# Altium footprint library Connectors.PcbLib: 22 footprints (part 1 of 2)
Each footprint in its own frame and in the unit in brackets; x right, y up, seen from the top. Pads: shape width x height; smd on the part's side, far side on the other; paste and mask are expansions set on the pad; w line width, h text height; cw(c..) or ccw(c..) is an arc to the next point about the centre after c.
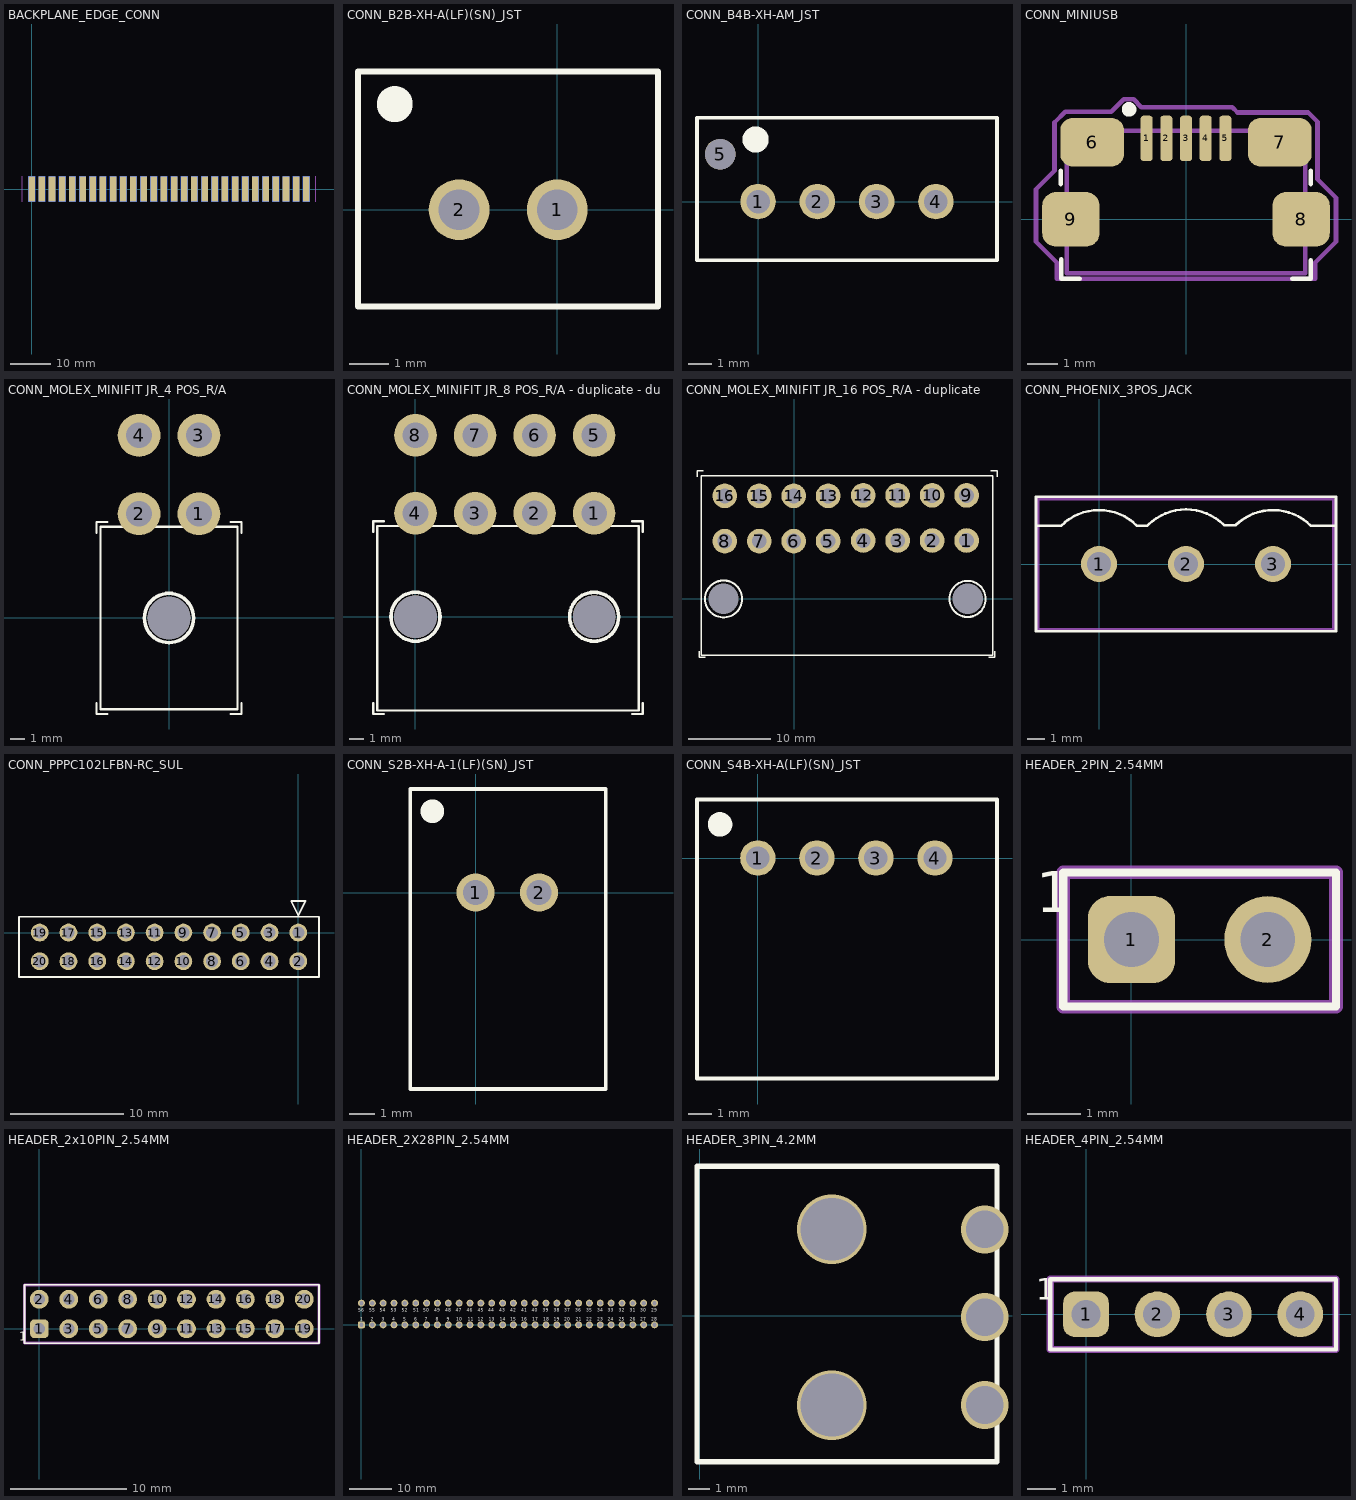
[diagram p0: the footprints below, top view; thin cyan lines are the x and y axes]

## BACKPLANE_EDGE_CONN [mil]
pads (56):
  rect 65x250 smd far side: 1(0,0) 2(100,0) 3(200,0) 4(300,0) 5(400,0) 6(500,0) 7(600,0) 8(700,0) 9(800,0) 10(900,0) 11(1000,0) 12(1100,0) 13(1200,0) 14(1300,0) 15(1400,0) 16(1500,0) 17(1600,0) 18(1700,0) 19(1800,0) 20(1900,0) 21(2000,0) 22(2100,0) 23(2200,0) 24(2300,0) 25(2400,0) 26(2500,0) 27(2600,0) 28(2700,0)
  rect 65x250 smd: 29(2700,0) 30(2600,0) 31(2500,0) 32(2400,0) 33(2300,0) 34(2200,0) 35(2100,0) 36(2000,0) 37(1900,0) 38(1800,0) 39(1700,0) 40(1600,0) 41(1500,0) 42(1400,0) 43(1300,0) 44(1200,0) 45(1100,0) 46(1000,0) 47(900,0) 48(800,0) 49(700,0) 50(600,0) 51(500,0) 52(400,0) 53(300,0) 54(200,0) 55(100,0) 56(0,0)
Mechanical 1:
  lines w10: -93,-125 -93,125 ; 2793,-125 2793,125

## CONN_B2B-XH-A(LF)(SN)_JST [mil]
pads (2):
  round 61 hole 41 mask+4: 1(0,0) 2(-98.43,0)
Top Overlay:
  circle w30: c-163,106 r3
  lines w6: -199.89,-97.14 101.11,-97.14 101.11,138.86 -199.89,138.86 -199.89,-97.14
3D body: height 10, standoff 0, extent 0,0 10,10

## CONN_B4B-XH-AM_JST [mil]
pads (5):
  round 59 hole 39 mask+4: 1(0,0) 2(98.43,0) 3(196.85,0) 4(295.28,0)
  round 51 hole 51 unplated: 5(-62.99,78.74)
Top Overlay:
  circle w25: c-4,103 r9.22
  lines w6: -101.36,74.53 -101.36,-97.14 396.64,-97.14 396.64,138.86 -101.36,138.86 -101.36,76
3D body: height 10, standoff 0, extent 0,0 10,10

## CONN_MINIUSB [mm] "USB2.0 Micro-B Receptacle SMD R/A"
pads (9):
  rrect50% 0.4x1.5 smd: 1(-1.3,2.675) 2(-0.65,2.675) 3(0,2.675) 4(0.65,2.675) 5(1.3,2.675)
  rrect50% 2.1x1.6 smd: 6(-3.1,2.55) 7(3.1,2.55)
  rrect50% 1.9x1.8 smd: 8(3.8,0) 9(-3.8,0)
Top Overlay:
  circle w0.254: c-1.88,3.632 r0.114
  lines w0.152: -4.14,1.168 -4.14,1.6 ; -4.115,-1.321 -4.115,-1.956 -3.505,-1.956 ; 3.505,-1.956 4.115,-1.956 4.115,-1.346 ; 4.115,1.168 4.115,1.6
Mechanical 1:
  lines w0.152: -3.937,-1.778 -3.937,2.921 3.937,2.921 3.937,-1.778 -3.937,-1.778
Boundary:
  lines w0.152: -4.953,-0.737 -4.267,-1.422 -4.267,-1.956 4.267,-1.956 4.267,-1.422 4.953,-0.737 4.953,0.711 4.343,1.321 4.343,1.93 4.343,3.226 4.039,3.531 1.702,3.531 1.524,3.708 -1.473,3.708 -1.727,3.962 -2.057,3.962 -2.464,3.556 -3.988,3.556 -4.343,3.2 -4.343,1.6 -4.953,0.991 -4.953,-0.737
3D body "10118192C.stp": height 2.72, standoff -0.29, extent -3.956,-2.667 3.956,2.994

## CONN_MOLEX_MINIFIT JR_4 POS_R/A [mm] "Molex Minifit Jr 5569 4 Pos R/A"
pads (5):
  round 3 hole 1.8: 1(2.1,7.3) 2(-2.1,7.3) 3(2.1,12.8) 4(-2.1,12.8)
  round 3 hole 3 unplated mask+0: ""(0,0)
Top Overlay:
  circle w0.254: c0,0 r1.727
  lines w0.152: -5.08,-5.969 -5.08,-6.731 -4.318,-6.731 ; -5.08,5.969 -5.08,6.731 -4.318,6.731 ; 4.318,-6.731 5.08,-6.731 5.08,-5.969 ; 4.318,6.731 5.08,6.731 5.08,5.969 ; -4.8,-6.4 -4.8,6.4 4.8,6.4 4.8,-6.4 -4.8,-6.4
3D body "026013115.stp": height 11.4, standoff -3.6, extent -5,-6.477 5,13.458

## CONN_MOLEX_MINIFIT JR_8 POS_R/A - duplicate - duplicate [mm] "Molex Minifit Jr 5569 8 Pos R/A"
pads (10):
  round 3 hole 1.801: 1(12.6,7.3) 2(8.4,7.3) 5(12.6,12.8) 6(8.4,12.8)
  round 3 hole 1.8: 3(4.2,7.3) 4(0,7.3) 7(4.2,12.8) 8(0,12.8)
  round 3 hole 3 unplated mask+0: ""(0,0) ""(12.6,0)
Top Overlay:
  circle w0.254: c0,0 r1.727
  circle w0.254: c12.6,0 r1.727
  lines w0.152: -2.98,-6.096 -2.98,-6.858 -2.218,-6.858 ; -2.98,5.969 -2.98,6.731 -2.218,6.731 ; 15.266,-6.858 16.028,-6.858 16.028,-6.096 ; 15.266,6.731 16.028,6.731 16.028,5.969 ; -2.7,-6.604 -2.7,6.4 15.748,6.4 15.748,-6.604 -2.7,-6.604
3D body "039301080.stp": height 11.01, standoff -3.99, extent -2.7,-6.6 15.7,13.335

## CONN_MOLEX_MINIFIT JR_16 POS_R/A - duplicate [mm] "Molex Minifit Jr 16 Pos R/A"
pads (18):
  round 3 hole 1.801: 1(20.964,7.112) 2(16.764,7.112) 5(4.1,7.046) 6(-0.1,7.046) 9(20.964,12.612) 10(16.764,12.612) 13(4.1,12.546) 14(-0.1,12.546)
  round 3 hole 1.8: 3(12.564,7.112) 4(8.364,7.112) 7(-4.3,7.046) 8(-8.5,7.046) 11(12.564,12.612) 12(8.364,12.612) 15(-4.3,12.546) 16(-8.5,12.546)
  round 3 hole 3.7 unplated mask+0: ""(-8.636,0) ""(21.082,0)
Top Overlay:
  circle w0.254: c21.082,0 r2.2
  circle w0.254: c-8.636,0 r2.25
  lines w0.152: -11.87,14.859 -11.87,15.621 -11.108,15.621 ; -11.616,-6.35 -11.616,-7.112 -10.854,-7.112 ; 23.648,-7.112 24.41,-7.112 24.41,-6.35 ; 23.902,15.621 24.664,15.621 24.664,14.859 ; -11.336,-6.858 24.13,-6.858 24.13,14.986 -11.336,14.986 -11.336,-6.858
3D body "039300160.stp": height 11.4, standoff -3.6, extent -11.176,-6.665 24.024,13.269

## CONN_PHOENIX_3POS_JACK [mm] "3 position phoenix connector jack end"
pads (3):
  round 2.1 hole 1.4: 1(0,0) 2(5.08,0) 3(10.16,0)
Top Overlay:
  lines w0.152: -3.683,2.227 -2.227,2.227 cw(c0,0) 2.227,2.227 2.814,2.227 ; 2.853,2.266 cw(c5.08,0.038) 7.307,2.266 7.933,2.266 ; 7.972,2.266 cw(c10.16,0) 12.387,2.227 13.843,2.227 ; -3.683,-3.937 13.843,-3.937 13.843,3.937 -3.683,3.937 -3.683,-3.937
Mechanical 1:
  lines w0.152: -3.54,-3.81 13.7,-3.81 13.7,3.8 -3.54,3.8 -3.54,-3.81
3D body "pxc_1755749_04_MSTBVA-2-5-3-G-5-08_3D.stp": height 12.01, standoff -3.89, extent -3.537,-4.7 13.703,3.87

## CONN_PPPC102LFBN-RC_SUL [mil]
pads (20):
  round 62 hole 42 mask+4: 1(0,0) 2(0,-100) 3(-100,0) 4(-100,-100) 5(-200,0) 6(-200,-100) 7(-300,0) 8(-300,-100) 9(-400,0) 10(-400,-100) 11(-500,0) 12(-500,-100) 13(-600,0) 14(-600,-100) 15(-700,0) 16(-700,-100) 17(-800,0) 18(-800,-100) 19(-900,0) 20(-900,-100)
Top Overlay:
  lines w6: -972,-155 -972,55 72,55 72,-155 -972,-155 ; -25,110 25,110 0,60 -25,110
3D body: height 10, standoff 0, extent 0,0 10,10

## CONN_S2B-XH-A-1(LF)(SN)_JST [mil]
pads (2):
  round 59 hole 39 mask+4: 1(0,0) 2(98.43,0)
Top Overlay:
  circle w30: c-67,126 r3.16
  lines w6: -101.3,-304.49 -101.3,160.51 201.7,160.51 201.7,-304.49 -101.3,-304.49
3D body: height 10, standoff 0, extent 0,0 10,10

## CONN_S4B-XH-A(LF)(SN)_JST [mil]
pads (4):
  round 59 hole 39 mask+4: 1(0,0) 2(98.43,0) 3(196.85,0) 4(295.28,0)
Top Overlay:
  circle w30: c-63,56 r5.39
  lines w6: -101.38,-367.48 -101.38,97.52 398.62,97.52 398.62,-367.48 -101.38,-367.48
3D body: height 10, standoff 0, extent 0,0 10,10

## HEADER_2PIN_2.54MM [mm]
pads (2):
  rrect50% 1.62x1.62 hole 1.02: 1(0,0)
  round 1.62 hole 1.02: 2(2.54,0)
Top Overlay:
  lines w0.152: -1.27,-1.25 3.81,-1.25 3.81,1.25 -1.27,1.25 -1.27,-1.25
  text "1" at -1.778,0.508 h0.76
Mechanical 1:
  lines w0.254: -1.27,-1.25 3.81,-1.25 3.81,1.25 -1.27,1.25 -1.27,-1.25
3D body "PREC002SAAN-RC.STEP": height 8.39, standoff -3.04, extent -1.27,-1.25 3.81,1.29

## HEADER_2x10PIN_2.54MM [mm]
pads (20):
  rrect50% 1.62x1.62 hole 1.02: 1(0,0)
  round 1.62 hole 1.02: 2(0,2.54) 3(2.54,0) 4(2.54,2.54) 5(5.08,0) 6(5.08,2.54) 7(7.62,0) 8(7.62,2.54)
  round 1.62 hole 1: 9(10.16,0) 10(10.16,2.54) 11(12.7,0) 12(12.7,2.54) 13(15.24,0) 14(15.24,2.54) 15(17.78,0) 16(17.78,2.54) 17(20.32,0) 18(20.32,2.54) 19(22.86,0) 20(22.86,2.54)
Top Overlay:
  lines w0.152: -1.27,-1.25 24.13,-1.25 24.13,3.79 -1.27,3.79 -1.27,-1.25
  text "1" at -1.753,-1.041 h0.76
Mechanical 1:
  lines w0.254: -1.27,-1.25 24.13,-1.25 24.13,3.79 -1.27,3.79 -1.27,-1.25
3D body "XG8T-2031.STEP": height 7.01, standoff -2.99, extent -1.27,-1.25 24.13,3.75

## HEADER_2X28PIN_2.54MM [mm]
pads (56):
  rrect50% 1.62x1.62 hole 1.02: 1(0,0)
  round 1.62 hole 1.02: 2(2.54,0) 3(5.08,0) 4(7.62,0) 5(10.16,0) 6(12.7,0) 7(15.24,0) 8(17.78,0) 9(20.32,0) 10(22.86,0) 11(25.4,0) 12(27.94,0) 13(30.48,0) 14(33.02,0) 15(35.56,0) 16(38.1,0) 17(40.64,0) 18(43.18,0) 19(45.72,0) 20(48.26,0) 21(50.8,0) 22(53.34,0) 23(55.88,0) 24(58.42,0) 25(60.96,0) 26(63.5,0) 27(66.04,0) 28(68.58,0) 29(68.58,5.08) 30(66.04,5.08) 31(63.5,5.08) 32(60.96,5.08) 33(58.42,5.08) 34(55.88,5.08) 35(53.34,5.08) 36(50.8,5.08) 37(48.26,5.08) 38(45.72,5.08) 39(43.18,5.08) 40(40.64,5.08) 41(38.1,5.08) 42(35.56,5.08) 43(33.02,5.08) 44(30.48,5.08) 45(27.94,5.08) 46(25.4,5.08) 47(22.86,5.08) 48(20.32,5.08) 49(17.78,5.08) 50(15.24,5.08) 51(12.7,5.08) 52(10.16,5.08) 53(7.62,5.08) 54(5.08,5.08) 55(2.54,5.08) 56(0,5.08)
Top Overlay:
  text "1" at -0.254,1.016 h0.76
  text "2" at 2.159,1.016 h0.76
  text "3" at 4.699,1.016 h0.76
  text "4" at 7.239,1.016 h0.76
  text "5" at 9.779,1.016 h0.76
  text "6" at 12.319,1.016 h0.76
  text "7" at 14.859,1.016 h0.76
  text "8" at 17.399,1.016 h0.76
  text "9" at 19.939,1.016 h0.76
  text "10" at 22.162,1.016 h0.76
  text "11" at 24.829,1.016 h0.76
  text "12" at 27.242,1.016 h0.76
  text "13" at 29.782,1.016 h0.76
  text "14" at 32.322,1.016 h0.76
  text "15" at 34.862,1.016 h0.76
  text "16" at 37.402,1.016 h0.76
  text "17" at 39.942,1.016 h0.76
  text "18" at 42.482,1.016 h0.76
  text "19" at 45.022,1.016 h0.76
  text "20" at 47.498,1.016 h0.76
  text "21" at 50.165,1.016 h0.76
  text "22" at 52.578,1.016 h0.76
  text "23" at 55.118,1.016 h0.76
  text "24" at 57.658,1.016 h0.76
  text "25" at 60.198,1.016 h0.76
  text "26" at 62.738,1.016 h0.76
  text "27" at 65.278,1.016 h0.76
  text "28" at 67.818,1.016 h0.76
  text "39" at 42.418,3.048 h0.76
  text "40" at 39.878,3.048 h0.76
  text "41" at 37.402,3.048 h0.76
  text "42" at 34.798,3.048 h0.76
  text "43" at 32.258,3.048 h0.76
  text "44" at 29.718,3.048 h0.76
  text "45" at 27.178,3.048 h0.76
  text "46" at 24.638,3.048 h0.76
  text "47" at 22.098,3.048 h0.76
  text "49" at 17.018,3.048 h0.76
  text "50" at 14.478,3.048 h0.76
  text "48" at 19.558,3.048 h0.76
  text "51" at 12.065,3.048 h0.76
  text "52" at 9.398,3.048 h0.76
  text "53" at 6.858,3.048 h0.76
  text "54" at 4.318,3.048 h0.76
  text "55" at 1.778,3.048 h0.76
  text "56" at -0.762,3.048 h0.76
  text "29" at 67.818,3.048 h0.76
  text "30" at 65.278,3.048 h0.76
  text "31" at 62.738,3.048 h0.76
  text "32" at 60.198,3.048 h0.76
  text "33" at 57.658,3.048 h0.76
  text "34" at 55.118,3.048 h0.76
  text "36" at 50.038,3.048 h0.76
  text "37" at 47.498,3.048 h0.76
  text "38" at 44.958,3.048 h0.76
  text "35" at 52.578,3.048 h0.76

## HEADER_3PIN_4.2MM [mil] "CONN HEADER R/A 3POS 4.2MM"
pads (3):
  oval 11.81x39.37 all layers, no hole: 1(535,162) 2(535,-3) 3(535,-168)
via 248,-168 diameter 130 hole 118
via 535,162 diameter 90 hole 71
via 535,-3 diameter 90 hole 71
via 535,-168 diameter 90 hole 71
via 248,162 diameter 130 hole 118
Top Overlay:
  lines w10: -5,-274 558,-274 558,280 -5,280 -5,-274
3D body "039303037.stp": height 283.46, standoff -137.8, extent -1,-269.65 553.53,273.66

## HEADER_4PIN_2.54MM [mm]
pads (4):
  rrect50% 1.62x1.62 hole 1.02: 1(0,0)
  round 1.62 hole 1.02: 2(2.54,0) 3(5.08,0) 4(7.62,0)
Top Overlay:
  lines w0.152: -1.27,-1.25 8.89,-1.25 8.89,1.25 -1.27,1.25 -1.27,-1.25
  text "1" at -1.778,0.508 h0.76
Mechanical 1:
  lines w0.254: -1.27,-1.25 8.89,-1.25 8.89,1.25 -1.27,1.25 -1.27,-1.25
3D body "PEC04SFAN.STEP": height 10.48, standoff -3.19, extent -1.27,-1.27 8.89,1.27